# Altium schematic symbol library Schlib.SchLib: 180 symbols (part 1 of 2)
Pins are listed as number, name and electrical type; pins without a type are passive.

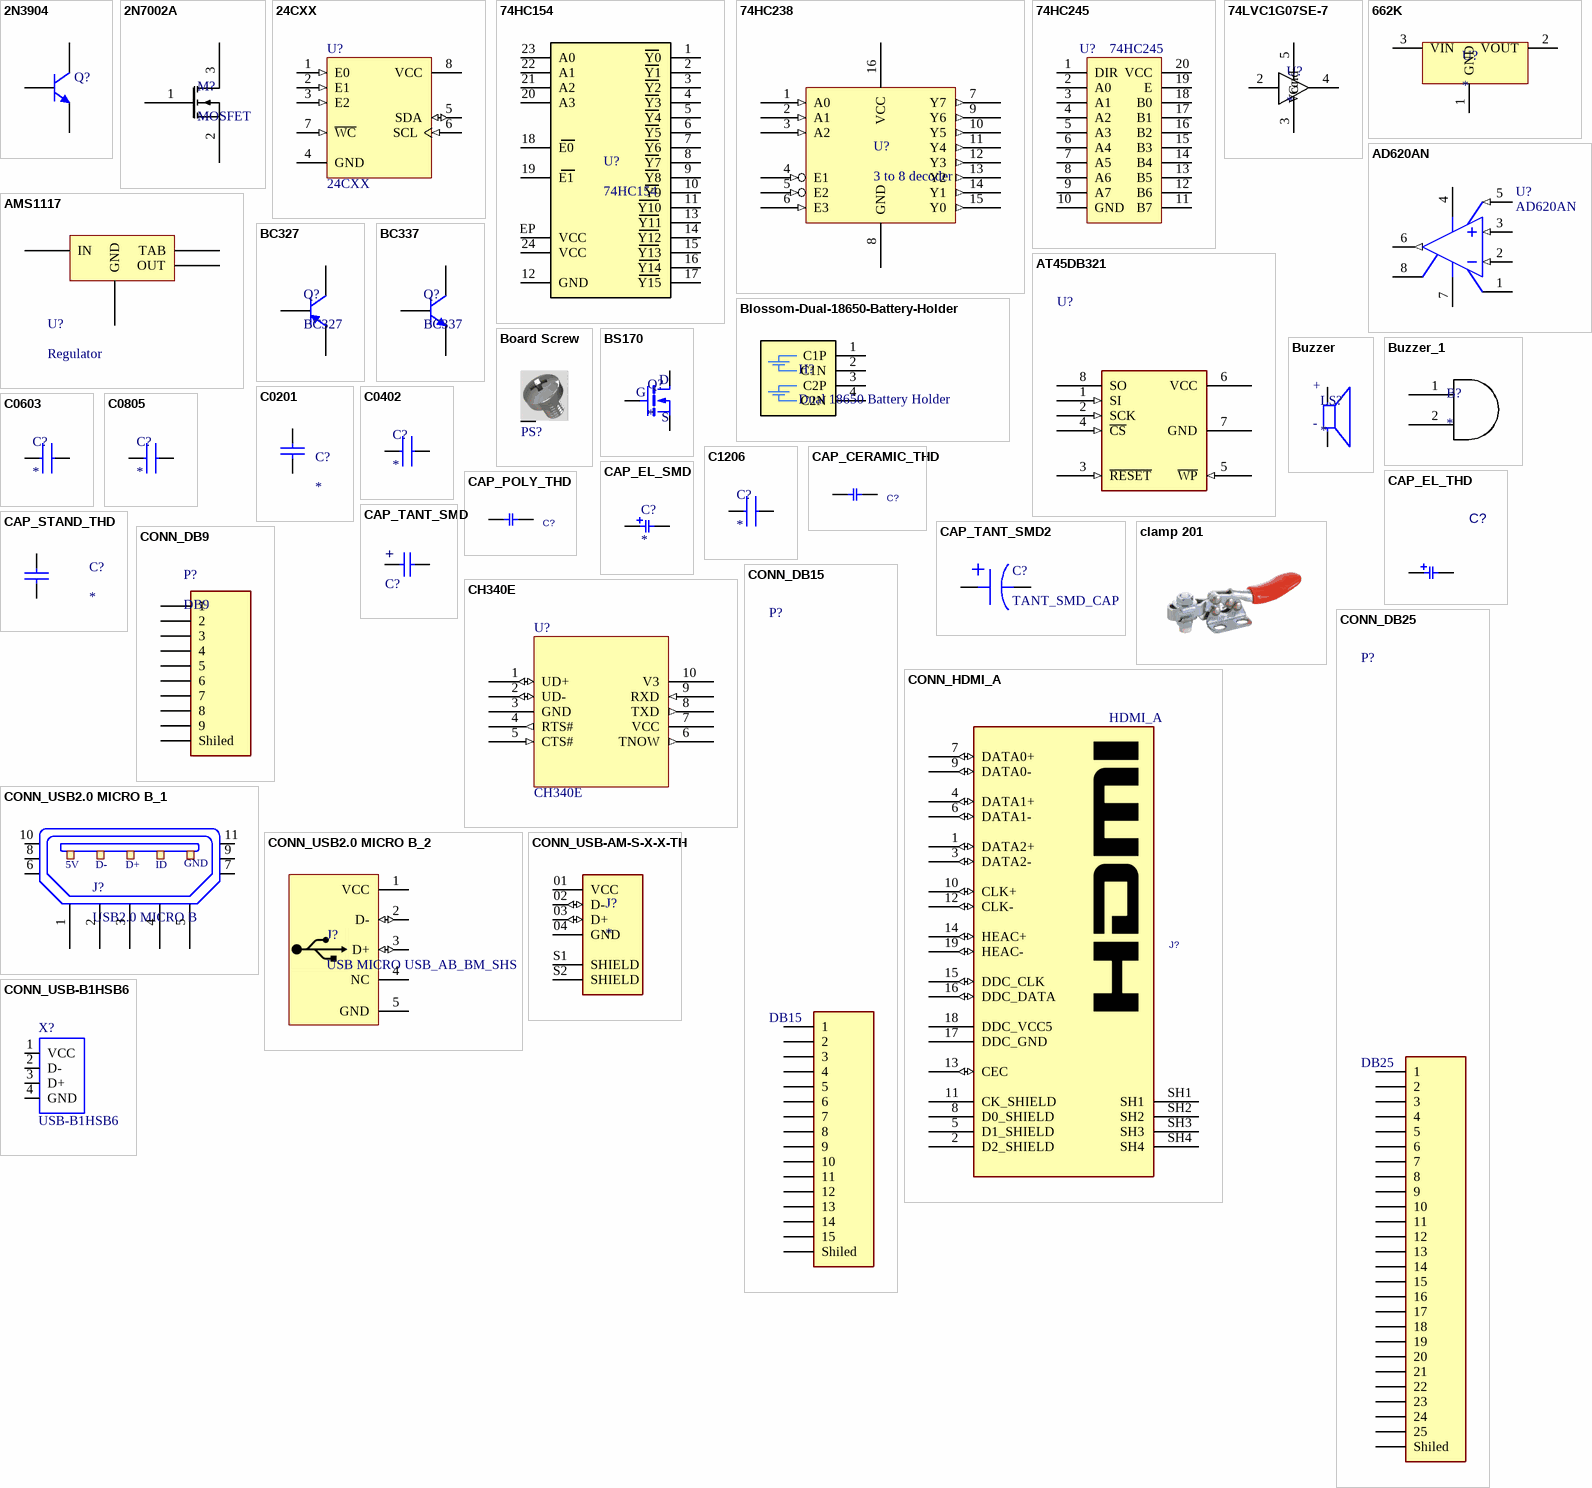
[diagram p0: symbols 2N3904 to CONN_USB-B1HSB6]

## 2N3904
designator Q?
NPN General Purpose Amplifier; Published: 8-Jun-2000; LatestRevisionDate: 15-Jan-2003; LatestRevisionNote: PCB Footprint 'BCY-W3/D4.7' replaced; DatasheetVersion: 1997; PackageVersion: Sep-1998; PackageReference: TO-92A; Publisher: Altium Limited; PackageDescription: TO, Flat Index; 3 In-Line, Axial Leads; Body Dia. 4.5mm; Leads 0.51 x 0.48 mm (max); ComponentLink1Description: Manufacturer Link; ComponentLink1URL: http://www.fairchildsemi.com/; ComponentLink2Description: Datasheet; ComponentLink2URL: http://www.fairchildsemi.com/ds/2N%2F2N3904.pdf
footprint SOT23 (2N3904)
pins: 1 B, 2 C, 3 E

## 2N7002A
designator M?, comment MOSFET
footprint SOT23
pins: 1, 2, 3

## 24CXX
designator U?
Serial I²C Bus EEPROM; ASiD Part Number: AT24C128C-SSHM-T-AS
footprint My_DIP8
footprint My_SOIC_P8
pins: 1 E0 (in), 2 E1 (in), 3 E2 (in), 4 GND (power), 5 SDA (io), 6 SCL (in), 7 ~{WC} (in), 8 VCC (power)

## 74HC154
designator U?
4-to-16 Decoder/Demultiplexer
footprint DHVQFN24
pins: 1 Y0, 2 Y1, 3 Y2, 4 Y3, 5 Y4, 6 Y5, 7 Y6, 8 Y7, 9 Y8, 10 Y9, 11 Y10, 12 GND, 13 Y11, 14 Y12, 15 Y13, 16 Y14, 17 Y15, 18 E0, 19 E1, 20 A3, 21 A2, 22 A1, 23 A0, 24 VCC, EP VCC

## 74HC238
designator U?, comment 3 to 8 decoder
3 to 8 decoder with 3 enable pins
footprint SO-16
pins: 1 A0 (in), 2 A1 (in), 3 A2 (in), 4 E1 (in), 5 E2 (in), 6 E3 (in), 7 Y7 (out), 8 GND (power), 9 Y6 (out), 10 Y5 (out), 11 Y4 (out), 12 Y3 (out), 13 Y2 (out), 14 Y1 (out), 15 Y0 (out), 16 VCC (power)

## 74HC245
designator U?
footprint 74HC245
pins: 1 DIR, 2 A0, 3 A1, 4 A2, 5 A3, 6 A4, 7 A5, 8 A6, 9 A7, 10 GND, 11 B7, 12 B6, 13 B5, 14 B4, 15 B3, 16 B2, 17 B1, 18 B0, 19 E, 20 VCC

## 74LVC1G07SE-7
designator U?
Buffer Gate
footprint SOT23-5L
pins: 2 A, 3 Gnd, 4 A, 5 Vcc

## 662K
designator U?
Regulator
footprint REGULATOR2
pins: 1 GND, 2 VOUT, 3 VIN

## AD620AN
designator U?
Low-Cost, Low-Power Instrumentation Amplifier; Published: 8-Jun-2000; LatestRevisionDate: 04-Mar-2005; LatestRevisionNote: Stylized 3D Model Added.; DatasheetVersion: REV.D 1998; PackageVersion: revA; PackageReference: N-8; Publisher: Altium Limited; PackageDescription: DIP; 8 Leads; Row Spacing 7.62 mm; Pitch 2.54 mm; ComponentLink1Description: Manufacturer Link; ComponentLink1URL: http://www.analog.com/en/prod/0%2C2877%2CAD620%2C00.html; ComponentLink2Description: Datasheet; ComponentLink2URL: http://www.analog.com/UploadedFiles/Data_Sheets/897653854AD620_g.pdf
footprint N-8 (DIP; 8 Leads; Row Spacing 7.62 mm; Pitch 2.54 mm)
pins: 1 RG, 2 -IN (in), 3 +IN (in), 4 V- (power), 5 REF (in), 6 OUT (out), 7 V+ (power), 8 RG

## AMS1117
designator U?, comment Regulator
Manufacturer: UMW(Youtai Semiconductor); Manufacturer Part Number: AMS1117-1.2; Supplier 1: Digi-Key; RoHS: No; Category: Uncategorized; Pricing 1: 1=0.4, 10=0.322, 25=0.2944, 100=0.2191, 250=0.1986, 500=0.16434, 1000=0.12326 (USD); Supplier Part Number 1: 4518-AMS1117-1.2DKR-ND
footprint REGULATOR
pins: 1 GND, 2 OUT, 3 IN, 4 TAB

## AT45DB321
designator U?, comment Atmel Serial Data flash  (value not drawn)
ASiD Part Number: AT45DB321-AS
footprint My_SOIC_P8
pins: 1 SI (in), 2 SCK (in), 3 ~{RESET} (in), 4 ~{CS} (in), 5 ~{WP} (in), 6 VCC (power), 7 GND (power), 8 SO (hiz)

## BC327
designator Q?
NPN Bipolar Transistors - BJT; ASiD Part Number: BC327-AS
footprint MY_TO92
pins: 1 E, 2 B, 3 C

## BC337
designator Q?
NPN Bipolar Transistors - BJT; ASiD Part Number: BC337-AS
footprint MY_TO92
pins: 1 E, 2 B, 3 C

## Blossom-Dual-18650-Battery-Holder
designator H?, comment Dual 18650 Battery Holder
footprint Blossom-1048-Dual-18650-Battery-Holder
pins: 1 C1P, 2 C1N, 3 C2P, 4 C2N

## Board Screw
designator PS?, comment Screw  (value not drawn)
Board Screw With Spacer
footprint screw
pins: S

## BS170
designator Q?
Mosfet
footprint BS170
pins: 1 D, 2 G, 3 S

## Buzzer
designator LS?
7.5 mm, 3.6 Vo-p, 80 dB, Surface Mount (SMT), Magnetic Audio Transducer Buzzer; MF: CUI Devices; MP: CMT-7525-80-SMT-TR; Value: *; Digi-Key_Part_Number: 102-CMT-7525-80-SMT-TR-ND; SnapEDA_Link: https://www.snapeda.com/parts/CMT-7525-80-SMT-TR/CUI+Devices/view-part/?ref=snap; Check_prices: https://www.snapeda.com/parts/CMT-7525-80-SMT-TR/CUI+Devices/view-part/?ref=eda; CUI_purchase_URL: https://www.cuidevices.com/product/audio/buzzers/audio-transducers/cmt-7525-80-smt-tr?utm_source=snapeda.com&utm_medium=referral&utm_campaign=snapedaBOM; Purchase-URL: https://pricing.snapeda.com/search/part/CMT-7525-80-SMT-TR/?ref=eda; Package: CUI Devices
footprint XDCR_CMT-7525-80-SMT-TR
pins: N, P
text: +; -

## Buzzer_1
designator B?
footprint Buzzer-5050
footprint BUZZER-CSPT12A
footprint BUZZER-9x9
pins: 1, 2

## C0201
designator C?
Multilayer Ceramic Capacitor,0201,SMD
footprint CAP0201SMD
pins: 1, 2

## C0402
designator C?
Multilayer Ceramic Capacitor,0402,SMD; Manufacturer: KEMET; Manufacturer Part Number: C0402C104K4RACTU; Material: 4241ConductorMaterial; Capacitance: 100nF; Tolerance: 10%; Dielectric: X7R; Voltage Rating: 16V; Supplier 1: Mouser; RoHS: Yes; Category: Ceramic Capacitors; Stock 1: 4458888; Pricing 1: 1=0.1, 10=0.037, 50=0.037, 100=0.02, 1000=0.012, 10000=0.008 (USD); Mount: Surface Mount; Case/Package: 0402; Number of Pins: 2NUMBER; Case Code (Imperial): 0402; Case Code (Metric): 1005; Dielectric Material: 4241ConductorMaterial; Min Operating Temperature: -55°C; Max Operating Temperature: 125°C; Packaging: Tape and Reel; Series: SMD Comm X7R; Voltage: 16V; Voltage Rating (AC): 16V; Length: 1mm; Depth: 0.5mm; Thickness: 558.8um; Lead Pitch: 300um; Radiation Hardening: No; RoHS Compliant: Yes; Lead Free: 5697LeadFree; Reach SVHC Compliant: 4186SVHC; Supplier Part Number 1: 80-C0402C104K4R
footprint CAP0402SMD
pins: 1, 2

## C0603
designator C?
Multilayer Ceramic Capacitor,0603,SMD; Manufacturer: KEMET; Manufacturer Part Number: C0603C475K8PACTU; Voltage Rating: 10V; Tolerance: 10%; Capacitance: 4.7uF; Dielectric: X5R; Dissipation Factor: 5%; Supplier 1: Mouser; RoHS: Yes; Category: Ceramic Capacitors; Stock 1: 905386; Pricing 1: 1=0.64, 10=0.634, 50=0.634, 100=0.44, 1000=0.403, 10000=0.036 (USD); Mount: Surface Mount; Case/Package: 0603; Number of Pins: 2; Case Code (Imperial): 0603; Case Code (Metric): 1608; Dielectric Material: Ceramic; Min Operating Temperature: -55°C; Max Operating Temperature: 85°C; Packaging: Tape and Reel; Termination: SMD/SMT; Series: C; Voltage Rating (DC): 10V; Voltage: 10V; Package Quantity: 1; Construction: Flat; Length: 1.6mm; Width: 0.031inch; Height: 0.8mm; Depth: 0.8mm; Thickness: 0.035inch; Radiation Hardening: No; Reach SVHC Compliant: No; RoHS Compliant: Yes; Lead Free: 5697LeadFree; ComponentLink1URL: https://datasheet.ciiva.com/26894/getdatasheetpartid-385569-26894059.pdf?src-supplier=Verical; ComponentLink1Description: https://datasheet.ciiva.com/26894/getdatasheetpartid-385569-26894059.pdf?src-supplier=Verical; ComponentLink2URL: https://datasheet.ciiva.com/28614/kem-c1006-x5r-smd-28614757.pdf?src-supplier=Element14; ComponentLink2Description: https://datasheet.ciiva.com/28614/kem-c1006-x5r-smd-28614757.pdf?src-supplier=Element14; Supplier Part Number 1: 80-C0603C475K8P
footprint CAP0603SMD
pins: 1, 2

## C0805
designator C?
Multilayer Ceramic Capacitor,0805,SMD; Manufacturer: KEMET; Manufacturer Part Number: C0805C106K8PACTU; Material: 4241ConductorMaterial; Capacitance: 10uF; Tolerance: 10%; Dielectric: X5R; Voltage Rating (DC): 10V; Supplier 1: Mouser; RoHS: Yes; Category: Ceramic Capacitors; Stock 1: 436110; Pricing 1: 1=0.15, 10=0.07, 50=0.07, 100=0.07, 1000=0.07, 10000=0.057 (USD); Mount: Surface Mount; Case/Package: 0805; Number of Pins: 2; Case Code (Imperial): 0805; Case Code (Metric): 2012; Dielectric Material: Ceramic; Contact Plating: Tin,Matte; Min Operating Temperature: -55°C; Max Operating Temperature: 85°C; Packaging: Tape and Reel; Termination: SMD/SMT; Series: C; Package Quantity: 1; Voltage Rating: 10V; Voltage: 10V; Construction: Flat; Dissipation Factor: 10%; Length: 2mm; Width: 0.049inch; Height: 1.25mm; Depth: 1.25mm; Thickness: 0.055inch; Radiation Hardening: No; RoHS Compliant: Yes; Reach SVHC Compliant: No; Lead Free: 5697LeadFree; Supplier Part Number 1: 80-C0805C106K8P
footprint CAP0805SMD
pins: 1, 2

## C1206
designator C?
Multilayer Ceramic Capacitor,1206,SMD; Manufacturer: KEMET; Manufacturer Part Number: C0402C104K4RACTU; Material: 4241ConductorMaterial; Capacitance: 100nF; Tolerance: 10%; Dielectric: X7R; Voltage Rating: 16V; Supplier 1: Mouser; RoHS: Yes; Category: Ceramic Capacitors; Stock 1: 4458888; Pricing 1: 1=0.1, 10=0.037, 50=0.037, 100=0.02, 1000=0.012, 10000=0.008 (USD); Mount: Surface Mount; Case/Package: 0402; Number of Pins: 2NUMBER; Case Code (Imperial): 0402; Case Code (Metric): 1005; Dielectric Material: 4241ConductorMaterial; Min Operating Temperature: -55°C; Max Operating Temperature: 125°C; Packaging: Tape and Reel; Series: SMD Comm X7R; Voltage: 16V; Voltage Rating (AC): 16V; Length: 1mm; Depth: 0.5mm; Thickness: 558.8um; Lead Pitch: 300um; Radiation Hardening: No; RoHS Compliant: Yes; Lead Free: 5697LeadFree; Reach SVHC Compliant: 4186SVHC; Supplier Part Number 1: 80-C0402C104K4R
footprint CAP1206SMD (CHIP Capacitor, 3.2X1.6mm, 1206)
pins: 1, 2

## CAP_CERAMIC_THD
designator C?  (value not drawn)
CAP, THD, CER MULTI LAYER,; DESC: CAP, CER MULTI LAYER,; MANF_P#: MANF_PART#; PARAM2: 50V; PRICE: 100= 1$; MANF: MANF; ASSEMBLY: ASSEMBLY
footprint CAP_CERAMIC (CAP, CER, D:5mm, pitch: 2.5mm)
pins: 1, 2

## CAP_EL_SMD
designator C?
CAP, SMD, ELEC,
footprint CAP_EL_SMD
pins: 1, 2

## CAP_EL_THD
designator C?  (value not drawn)
CAP, THD, ELEC,; MANF_P#: MANF_PART#; DESC: DESCRIPTION; DIST#: MOUSER; PARAM: 20%; PRICE: 10= -$; MANF: MANF; ASSEMBLY: ASSEMBLY
footprint CAP_EL (Capacitor Electrolythic, D10.0X16.0H pitch: 5.0mm)
pins: 1, 2

## CAP_POLY_THD
designator C?  (value not drawn)
CAP, POLY; PARAM: 400V; DESC: CAP, FILM,; MANF_P#: MANF_PART#; PRICE: 100= 1$; MANF: MANF; PARAM2: PARAM2; ASSEMBLY: ASSEMBLY
footprint CAP_FILM (CAP, POLYESTER, 9.3X5.2mm pitch: 7.6mm)
pins: 1, 2

## CAP_STAND_THD
designator C?
CAP, STAND, THD
footprint CAP_STAND
pins: 1, 2

## CAP_TANT_SMD
designator C?  (value not drawn)
CAP, SMD, TANT,; ASiD Part Number: C-AS
footprint CAP_TANT2
pins: 1, 2
text: +

## CAP_TANT_SMD2
designator C?, comment TANT_SMD_CAP
CAP, SMD, TANT; Manufacturer: KEMET; Manufacturer Part Number: T530X337M010ATE004; Supplier 1: Rs; RoHS: Yes; Category: Polymer Capacitors; Stock 1: 501; Pricing 1: 1=5.61, 10=5.39, 25=5.16, 50=4.65, 100=4.18 (GBP); ComponentLink1URL: https://datasheet.ciiva.com/11794/0900766b80deaa91-11794477.pdf?src-supplier=Rs; ComponentLink1Description: https://datasheet.ciiva.com/11794/0900766b80deaa91-11794477.pdf?src-supplier=Rs; ComponentLink2URL: https://datasheet.ciiva.com/14593/70096008-14593753.pdf?src-supplier=Allied+Electronics; ComponentLink2Description: https://datasheet.ciiva.com/14593/70096008-14593753.pdf?src-supplier=Allied+Electronics
footprint CAP_TANT
pins: 1, 2

## CH340E
designator U?
USB to TTL Serial / UART
footprint CH340E
pins: 1 UD+ (io), 2 UD- (io), 3 GND (power), 4 RTS# (out), 5 CTS# (in), 6 TNOW (out), 7 VCC (power), 8 TXD (out), 9 RXD (in), 10 V3 (power)

## clamp 201
designator clamp?  (value not drawn)
footprint clamp 201
footprint clamp

## CONN_DB9
designator P?, comment DB9
DB9 (Right angle  PCB mount); ASiD Part Number: DB9-AS
footprint MY_DSUB9_Female (Connector; D Subminiature; 9 Position; Right Angle; Pitch 1.385 mm)
footprint MY_DSUB9_Male
pins: 1, 2, 3, 4, 5, 6, 7, 8, 9, 10 Shiled

## CONN_DB15
designator P?, comment DB15
DB15 (Right angle  PCB mount); ASiD Part Number: DB15-AS
footprint MY_DSUB15_Female (Connector; D Subminiature; 15 Position; Right Angle; Pitch 1.385 mm)
footprint MY_DSUB15_Male
pins: 1, 2, 3, 4, 5, 6, 7, 8, 9, 10, 11, 12, 13, 14, 15, 16 Shiled

## CONN_DB25
designator P?, comment DB25
DB25 (Right angle  PCB mount); ASiD Part Number: DB25-AS
footprint MY_DSUB25_Female (Connector; D Subminiature; 25 Position; Right Angle; Pitch 1.385 mm)
footprint MY_DSUB25_Male
pins: 1, 2, 3, 4, 5, 6, 7, 8, 9, 10, 11, 12, 13, 14, 15, 16, 17, 18, 19, 20, 21, 22, 23, 24, 25, 26 Shiled

## CONN_HDMI_A
designator J?, comment HDMI_A
CONN, HDMI, Receptacle, TYPE A, 19P, RIGH-ANGLE; MANF: Molex, WURTH; MANF_P#: 208658-1051, 47151-0001, 500254-1927; PARAM: Receptacle, 19P, RIGH-ANGLE; MANF_P#2: 685119134923; PRICE: 2.57$; VALUE: HDMI_A
footprint HDMI_A (CONN, HDMI, TYPE A, 19PIN)
pins: 1 DATA2+ (io), 2 D2_SHIELD, 3 DATA2- (io), 4 DATA1+ (io), 5 D1_SHIELD, 6 DATA1- (io), 7 DATA0+ (io), 8 D0_SHIELD, 9 DATA0- (io), 10 CLK+ (io), 11 CK_SHIELD, 12 CLK- (io), 13 CEC (io), 14 HEAC+ (io), 15 DDC_CLK (io), 16 DDC_DATA (io), 17 DDC_GND, 18 DDC_VCC5, 19 HEAC- (io), SH1, SH2, SH3, SH4

## CONN_USB2.0 MICRO B_1
designator J?, comment USB2.0 MICRO B
USB2.0 MICRO B SMD R/A; Manufacturer 1: Amphenol FCI; Manufacturer Part Number 1: 10118194-0001LF; Gender: Receptacle; Current Rating: 1.8A; Connector Type: USB,Receptacle; Number of Contacts: 5; Insulation Resistance: 1GR; Number of Ports: 1; Max Voltage Rating (AC): 100V; Pitch: 0.65mm; Supplier 1: Digi-Key; RoHS: Yes; Category: Connectors; Stock 1: 31557; Pricing 1: 1=0.43000, 10=0.40500, 25=0.36440, 50=0.32400, 100=0.31040, 250=0.28344, 500=0.26994 (USD); Mount: Surface Mount,Horizontal; Contact Material: Copper Alloy; Contact Plating: Gold; Number of Terminals: 5; Housing Material: Polymer; Color: Black; Min Operating Temperature: -55°C; Max Operating Temperature: 85°C; Package Quantity: 9600; Packaging: Tape and Reel; Termination: Solder; Orientation: Right Angle; Features: Shielded; Length: 8.05mm; Depth: 5mm; Radiation Hardening: No; Lead Free: Lead Free; Flammability Rating: UL94 V-0; ComponentLink1URL: https://datasheet.ciiva.com/4598/10118194ac-197217-4598807.pdf?src-supplier=Mouser; ComponentLink1Description: https://datasheet.ciiva.com/4598/10118194ac-197217-4598807.pdf?src-supplier=Mouser; ComponentLink2URL: https://datasheet.ciiva.com/26945/getdatasheetpartid-418619-26945695.pdf?src-supplier=Verical; ComponentLink2Description: https://datasheet.ciiva.com/26945/getdatasheetpartid-418619-26945695.pdf?src-supplier=Verical; ComponentLink3URL: https://datasheet.ciiva.com/851/10118194-851110.pdf?src-supplier=Digi-Key; ComponentLink3Description: https://datasheet.ciiva.com/851/10118194-851110.pdf?src-supplier=Digi-Key; ComponentLink4URL: https://datasheet.ciiva.com/851/10118194-851111.pdf?src-supplier=Digi-Key; ComponentLink4Description: https://datasheet.ciiva.com/851/10118194-851111.pdf?src-supplier=Digi-Key; Supplier Part Number 1: 609-4618-1-ND
footprint USB TYPE B
pins: 1, 2, 3, 4, 5, 6, 7, 8, 9, 10, 11
text: 5V; D-; D+; ID; GND

## CONN_USB2.0 MICRO B_2
designator J?, comment USB MICRO USB_AB_BM_SHS
footprint USB TYPE B_2
pins: 1 VCC (power), 2 D- (io), 3 D+ (io), 4 NC, 5 GND (power)

## CONN_USB-AM-S-X-X-TH
designator J?
USB Connectors USB 2.0 Interface, Type A; MF: Samtec; MP: USB-AM-S-S-W-TH; Value: *; SnapEDA_Link: https://www.snapeda.com/parts/USB-AM-S-S-W-TH/Samtec/view-part/?ref=snap; Purchase-URL: https://pricing.snapeda.com/search/part/USB-AM-S-S-W-TH/?ref=eda; Availability: In Stock; Price: None; Package: None; Check_prices: https://www.snapeda.com/parts/USB-AM-S-S-W-TH/Samtec/view-part/?ref=eda
footprint SAMTEC_USB-AM-S-X-X-TH
pins: 01 VCC (power), 02 D- (io), 03 D+ (io), 04 GND (power), S1 SHIELD, S2 SHIELD

## CONN_USB-B1HSB6
designator X?, comment USB-B1HSB6
USB-B _USB TYPE-B_ Receptacle Connector 4 Position Through Hole, Right Angle; MF: On Shore; Value: *; SnapEDA_Link: https://www.snapeda.com/parts/USB-B1HSB6/On%20Shore%20Technology%20Inc./view-part/227661/?ref=snap; Digi-Key_Purchase_URL: https://www.digikey.com/product-detail/en/on-shore-technology-inc/USB-B1HSB6/ED2983-ND/2677744?utm_source=snapeda&utm_medium=aggregator&utm_campaign=symbol; MP: USB-B1HSB6; Digi-Key_Part_Number: ED2983-ND; Package: None
footprint OST_USB-B1HSB6
pins: 1 VCC (power), 2 D- (io), 3 D+ (io), 4 GND (power)

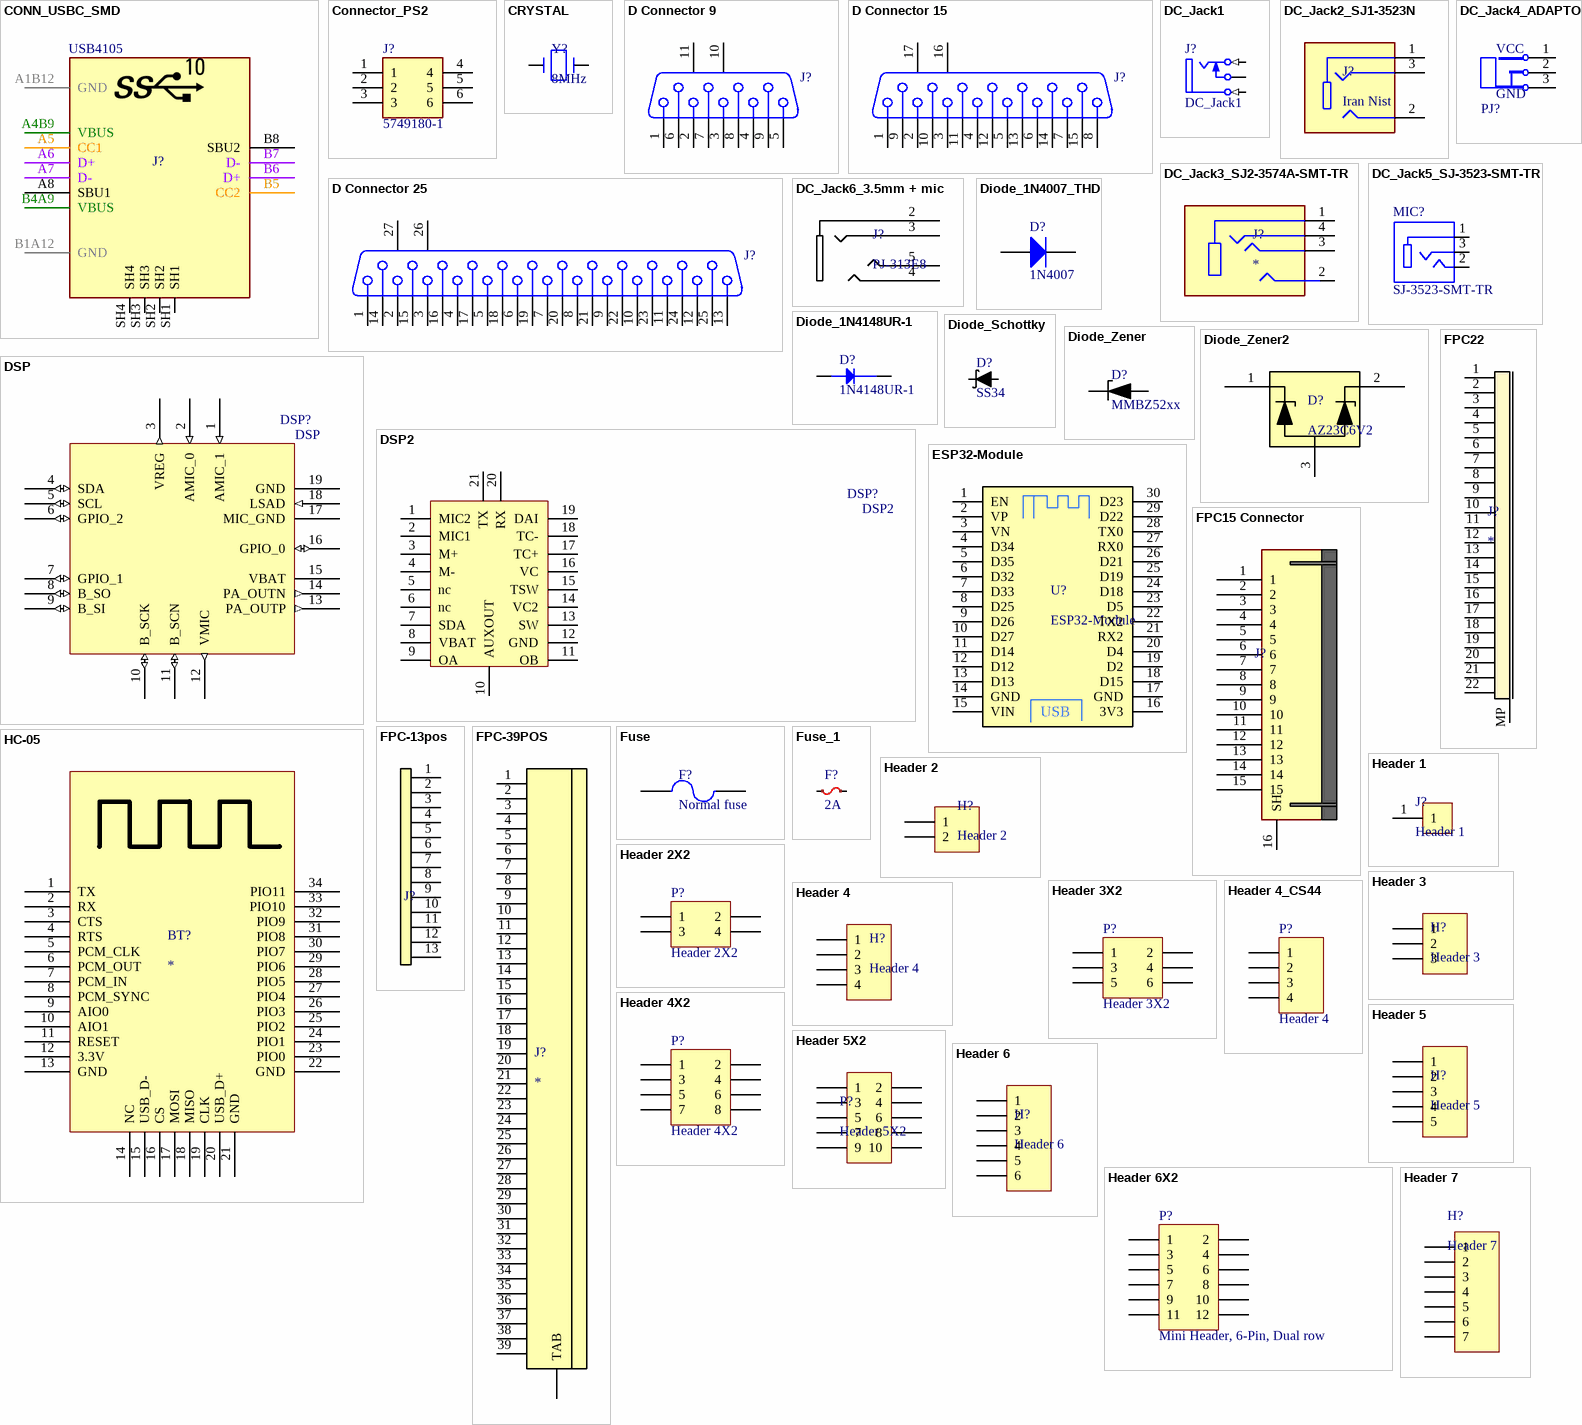
[diagram p1: symbols CONN_USBC_SMD to Header 7]

## CONN_USBC_SMD
designator J?, comment USB4105
CONN, USB, Type C, USB 2.0, Right-Angle, SMD; MANF: GCT; MANF_P#: USB4105-GF-A; PARAM: 5A; Price: 1.5$; Value: USB4105
footprint USB TYPE C (CONN, USB, Type C, USB4105, popular*)
pins: A1B12 GND, A4B9 VBUS, A5 CC1, A6 D+, A7 D-, A8 SBU1, B1A12 GND, B4A9 VBUS, B5 CC2, B6 D+, B7 D-, B8 SBU2, SH1, SH2, SH3, SH4
1 alternate drawing of the same symbol

## Connector_PS2
designator J?, comment 5749180-1
Connector; Manufacturer_Name: TE Connectivity; Datasheet Link: http://www.te.com/commerce/DocumentDelivery/DDEController?Action=srchrtrv&DocNm=5749180&DocType=Customer+Drawing&DocLang=English&DocFormat=pdf&PartCntxt=5749180-1; Manufacturer_Part_Number: 5749180-1; Arrow Part Number: 5749180-1; Arrow Price/Stock: https://www.arrow.com/en/products/5749180-1/te-connectivity; Mouser Part Number: 571-5749180-1; Mouser Price/Stock: https://www.mouser.co.uk/ProductDetail/TE-Connectivity/5749180-1?qs=XlZqES4cpWZV2xh%2FjR2Ukw%3D%3D
footprint 5749180-1
pins: 1, 2, 3, 4, 5, 6

## CRYSTAL
designator Y?, comment 8MHz
CRYSTAL 8.0000MHZ 18PF SMD; Manufacturer 1: ECS International; Manufacturer Part Number 1: ECS-80-18-5PX-TR; Tolerance: 30ppm; ESR (Equivalent Series Resistance): 60R; Frequency Stability: 50ppm; Supplier 1: Digi-Key; RoHS: Yes; Category: Crystals; Stock 1: 6700; Pricing 1: 1=0.25000, 10=0.21000, 50=0.18860, 100=0.16760, 500=0.15926 (USD); Mount: Surface Mount; Min Operating Temperature: -10°C; Max Operating Temperature: 70°C; Package Quantity: 1000; Frequency: 8MHz; Load Capacitance: 18pF; Packaging: Tape and Reel; Frequency Tolerance: 30ppm; Termination: SMD/SMT; Length: 0.449inch; Height: 0.169inch; Width: 4.8mm; Lead Free: Lead Free; ComponentLink1URL: https://datasheet.ciiva.com/852/csm-7x-852380.pdf?src-supplier=Digi-Key; ComponentLink1Description: https://datasheet.ciiva.com/852/csm-7x-852380.pdf?src-supplier=Digi-Key; ComponentLink2URL: https://datasheet.ciiva.com/852/csm-7x-852381.pdf?src-supplier=Digi-Key; ComponentLink2Description: https://datasheet.ciiva.com/852/csm-7x-852381.pdf?src-supplier=Digi-Key; ComponentLink3URL: https://datasheet.ciiva.com/852/csm-7x-852382.pdf?src-supplier=Digi-Key; ComponentLink3Description: https://datasheet.ciiva.com/852/csm-7x-852382.pdf?src-supplier=Digi-Key; Supplier Part Number 1: XC1271CT-ND
footprint CRYSTAL
pins: 1, 2

## D Connector 9
designator J?
Receptacle Assembly, 9 Position, Right Angle; PackageDocument: O; Positions: 9; Published: 15-Jun-2001; LatestRevisionDate: 17-Jul-2002; LatestRevisionNote: Re-released for DXP Platform.; DatasheetDocument: 1-Sep-1999; PackageReference: 788750; Publisher: Altium Limited; Orientation: Right Angle; Gender: Receptacle
signal-integrity model Connector
footprint DSUB1.385-2H9-F (Connector; D Subminiature; 9 Position; Right Angle; Pitch 1.385 mm)
footprint DSUB1.385-2H9 - M (Connector; D Subminiature; 9 Position; Right Angle; Pitch 1.385 mm)
pins: 1, 2, 3, 4, 5, 6, 7, 8, 9, 10 MH1, 11 MH2

## D Connector 15
designator J?
Receptacle Assembly, 15 Position, Right Angle; PackageDocument: O; Positions: 15; Published: 15-Jun-2001; LatestRevisionDate: 17-Jul-2002; LatestRevisionNote: Re-released for DXP Platform.; DatasheetDocument: 1-Sep-99; PackageReference: 788757; Publisher: Altium Limited; Orientation: Right Angle; Gender: Receptacle
signal-integrity model Connector
footprint DSUB1.385-2H15-F (Connector; D Subminiature; 15 Position; Right Angle; Pitch 1.385 mm)
footprint DSUB1.385-2H15 - M (Connector; D Subminiature; 15 Position; Right Angle; Pitch 1.385 mm)
pins: 1, 2, 3, 4, 5, 6, 7, 8, 9, 10, 11, 12, 13, 14, 15, 16 MH1, 17 MH2

## D Connector 25
designator J?
Receptacle Assembly, 25 Position, Right Angle; PackageDocument: U; Positions: 25; Published: 15-Jun-2001; LatestRevisionDate: 17-Jul-2002; LatestRevisionNote: Re-released for DXP Platform.; DatasheetDocument: 19-Mar-1999; PackageReference: 787202; Publisher: Altium Limited; Orientation: Right Angle; Gender: Receptacle
signal-integrity model Connector
footprint DSUB1.385-2H25A-F (Connector; D Subminiature; 25 Position; Right Angle; Pitch 1.385 mm)
footprint DSUB1.385-2H25A - M (Connector; D Subminiature; 25 Position; Right Angle; Pitch 1.385 mm)
pins: 1, 2, 3, 4, 5, 6, 7, 8, 9, 10, 11, 12, 13, 14, 15, 16, 17, 18, 19, 20, 21, 22, 23, 24, 25, 26 MH1, 27 MH2

## DC_Jack1
designator J?
DC_Jack; ASiD Part Number: DC_Jack-AS
footprint My_DC_Jack
pins: 1 T (in) "Tip", 2 TN "Tip Normal (Break Contact)", 3 S (in) "Sleeve (Ground)"

## DC_Jack2_SJ1-3523N
designator J?, comment Iran Nist
3.5 mm, Stereo, Right Angle, Through Hole, 3 Conductors, 0 Internal Switches, Audio Jack Connector; MF: CUI Devices; MP: SJ1-3523N; SnapEDA_Link: https://www.snapeda.com/parts/SJ1-3523N/CUI+Devices/view-part/?ref=snap; Package: None; Value: *; CUI_purchase_URL: https://www.cuidevices.com/product/interconnect/connectors/audio-connectors/jacks/sj1-3523n?utm_source=snapeda.com&utm_medium=referral&utm_campaign=snapedaBOM; Check_prices: https://www.snapeda.com/parts/SJ1-3523N/CUI+Devices/view-part/?ref=eda
footprint CUI_SJ1-3523N
pins: 1, 2, 3

## DC_Jack3_SJ2-3574A-SMT-TR
designator J?
3.5 mm, Stereo, Right Angle, Surface Mount (SMT), Audio Jack Connector; MP: SJ2-3574A-SMT-TR; MF: CUI Devices; SnapEDA_Link: https://www.snapeda.com/parts/SJ2-3574A-SMT-TR/CUI+Devices/view-part/?ref=snap; Package: None; CUI_purchase_URL: https://www.cuidevices.com/product/interconnect/connectors/audio-connectors/jacks/sj2-357x-smt-series?utm_source=snapeda.com&utm_medium=referral&utm_campaign=snapedaBOM; Check_prices: https://www.snapeda.com/parts/SJ2-3574A-SMT-TR/CUI+Devices/view-part/?ref=eda; Purchase-URL: https://pricing.snapeda.com/search/part/SJ2-3574A-SMT-TR/?ref=eda; Price: None; Value: *; Availability: In Stock
footprint CUI_SJ2-3574A-SMT-TR
pins: 1, 2, 3, 4

## DC_Jack4_ADAPTOR
designator PJ?, comment JACK ADAPTOR  (value not drawn)
footprint JACK ADAPTOR
pins: 1, 2, 3
text: VCC; GND

## DC_Jack5_SJ-3523-SMT-TR
designator MIC?, comment SJ-3523-SMT-TR
3.5 mm, Stereo, Right Angle, Surface Mount _SMT_, Audio Jack Connector; MF: CUI Devices; Package: LGA-10 STMicroelectronics; CUI_purchase_URL: https://www.cuidevices.com/product/interconnect/connectors/audio-connectors/jacks/sj-352x-smt-series?utm_source=snapeda.com&utm_medium=referral&utm_campaign=snapedaBOM; Value: *; Price: None; MP: SJ-3523-SMT-TR; Availability: Unavailable; SnapEDA_Link: https://www.snapeda.com/parts/SJ-3523-SMT-TR/CUI%20Devices/view-part/251570/?ref=snap
footprint CUI_SJ-3523-SMT-TR
pins: 1, 2, 3

## DC_Jack6_3.5mm + mic
designator J?, comment PJ-313E8
footprint PJ-313E8
pins: 2 gg, 3 gg, 4 gg, 5 gg

## Diode_1N4007_THD
designator D?, comment 1N4007
1 Amp Diode; ASiD Part Number: 1n4007-AS
footprint Diode2
pins: A, K

## Diode_1N4148UR-1
designator D?, comment 1N4148UR-1
Diode Switching 75V 0.2A 2-Pin DO-213AA; Manufacturer 1: Microsemi; Forward Voltage: 1.2V; Forward Current: 200mA; Peak Reverse Current: 500nA; Reverse Recovery Time: 5ns; Peak Non-Repetitive Surge Current: 2A; Element Configuration: Single; Supplier 1: Digi-Key; Manufacturer Part Number 1: 1N4148UR-1; RoHS: Yes; Category: Rectifier Diodes; Stock 1: 470; Pricing 1: 1=1.50000, 10=1.35200, 100=1.08630, 500=0.89250, 1000=0.73950, 2500=0.71400 (USD); Mount: Surface Mount; Number of Pins: 2; Min Operating Temperature: -65°C; Max Operating Temperature: 175°C; Packaging: Bulk; Average Rectified Current: 200mA; Max Repetitive Reverse Voltage (Vrrm): 75V; Max Reverse Voltage (DC): 75V; Radiation Hardening: No; Lead Free: Lead Free; ComponentLink1URL: https://datasheet.ciiva.com/3304/lds-0281-1-3304223.pdf?src-supplier=Avnet; ComponentLink1Description: https://datasheet.ciiva.com/3304/lds-0281-1-3304223.pdf?src-supplier=Avnet; Supplier Part Number 1: 1N4148UR-1-ND
footprint DIODE
pins: 1 anode, 2 cathode

## Diode_Schottky
designator D?, comment SS34
Schottky Diode
footprint SCHOTTKY_DIODE
pins: A (oe), K (oe)

## Diode_Zener
designator D?, comment MMBZ52xx
Zener diode
footprint DIODE_ZENER
pins: 1 Anode, 3 Cathode

## Diode_Zener2
designator D?, comment AZ23C6V2
6.2V Zener
footprint DIODE_ZENER2
pins: 1, 2, 3

## DSP
designator DSP?
footprint DSP
pins: 1 AMIC_1 (in), 2 AMIC_0 (in), 3 VREG (out), 4 SDA (io), 5 SCL (io), 6 GPIO_2 (io), 7 GPIO_1 (io), 8 B_SO (io), 9 B_SI (io), 10 B_SCK (io), 11 B_SCN (io), 12 VMIC (out), 13 PA_OUTP (out), 14 PA_OUTN (out), 15 VBAT (power), 16 GPIO_0 (io), 17 MIC_GND (power), 18 LSAD (in), 19 GND (power)

## DSP2
designator DSP?
footprint DSP2
footprint Audion 6
footprint HYBRID_MODULE - on Board
pins: 1 MIC2, 2 MIC1, 3 M+, 4 M-, 5 nc, 6 nc, 7 SDA, 8 VBAT, 9 OA, 10 AUXOUT, 11 OB, 12 GND, 13 SW, 14 VC2, 15 TSW, 16 VC, 17 TC+, 18 TC-, 19 DAI, 20 RX, 21 TX

## ESP32-Module
designator U?
ESP32 Module
footprint ESP32-MODULE
pins: 1 EN, 2 VP, 3 VN, 4 D34, 5 D35, 6 D32, 7 D33, 8 D25, 9 D26, 10 D27, 11 D14, 12 D12, 13 D13, 14 GND, 15 VIN, 16 3V3, 17 GND, 18 D15, 19 D2, 20 D4, 21 RX2, 22 TX2, 23 D5, 24 D18, 25 D19, 26 D21, 27 RX0, 28 TX0, 29 D22, 30 D23
text: USB

## FPC15 Connector
designator J?
FPC connector 15pin 1mm pitch
footprint FPC15-1mm
pins: 1, 2, 3, 4, 5, 6, 7, 8, 9, 10, 11, 12, 13, 14, 15, 16 SH

## FPC22
designator J?
FPC Connector 0.5mm pitch
footprint FPC22-0.5MM (FH12-20S-0.5SH FFC-FPC pitch: 0.5mm)
pins: 1, 2, 3, 4, 5, 6, 7, 8, 9, 10, 11, 12, 13, 14, 15, 16, 17, 18, 19, 20, 21, 22, MP

## FPC-13pos
designator J?  (value not drawn)
FPC 0.3mm pitch 13pos
footprint FPC13-0.3MM
pins: 1, 2, 3, 4, 5, 6, 7, 8, 9, 10, 11, 12, 13

## FPC-39POS
designator J?
footprint FPC39-0.3MM
pins: 1, 2, 3, 4, 5, 6, 7, 8, 9, 10, 11, 12, 13, 14, 15, 16, 17, 18, 19, 20, 21, 22, 23, 24, 25, 26, 27, 28, 29, 30, 31, 32, 33, 34, 35, 36, 37, 38, 39, TAB

## Fuse
designator F?, comment Normal fuse
ASiD Part Number: Fuse-AS
footprint MY_FUSE
pins: 1, 2

## Fuse_1
designator F?, comment 2A
Fuse; Amper: 2A
footprint F2410 (FUSE, 6x2.5mm)
pins: 1, 2

## HC-05
designator BT?
footprint HC-05
pins: 1 TX (oe), 2 RX (oe), 3 CTS (oe), 4 RTS (oe), 5 PCM_CLK (oe), 6 PCM_OUT (oe), 7 PCM_IN (oe), 8 PCM_SYNC (oe), 9 AIO0 (oe), 10 AIO1 (oe), 11 RESET (oe), 12 3.3V (oe), 13 GND (oe), 14 NC (oe), 15 USB_D- (oe), 16 CS (oe), 17 MOSI (oe), 18 MISO (oe), 19 CLK (oe), 20 USB_D+ (oe), 21 GND (oe), 22 GND (oe), 23 PIO0 (oe), 24 PIO1 (oe), 25 PIO2 (oe), 26 PIO3 (oe), 27 PIO4 (oe), 28 PIO5 (oe), 29 PIO6 (oe), 30 PIO7 (oe), 31 PIO8 (oe), 32 PIO9 (oe), 33 PIO10 (oe), 34 PIO11 (oe)

## Header 1
designator J?
footprint Pad_Hole
pins: 1

## Header 2
designator H?
footprint MO-HEADER 2
footprint My_1X02
footprint MY_MA02-1W
footprint REC
footprint BAT
pins: 1, 2

## Header 2X2
designator P?
Header, 2-Pin, Dual row; LatestRevisionDate: 17-Jul-2002; LatestRevisionNote: Re-released for DXP Platform.; Publisher: Altium Limited
footprint HDR2X2 (Connector; Header; 2x2 Position)
pins: 1, 2, 3, 4

## Header 3
designator H?
footprint MO-Header 3
footprint My_1X03
footprint mic
pins: 1, 2, 3

## Header 3X2
designator P?
2mm Header, 3-Pin, Dual row; LatestRevisionDate: 23-DEC-2012; LatestRevisionNote: Re-released for DXP Platform.; Publisher: Koosha Electronic
footprint MMHDR2X3 (Connector; Header; 3x2 Position)
pins: 1, 2, 3, 4, 5, 6

## Header 4
designator H?
footprint MO-Header 4
footprint My_1X04
footprint CS44Connector
pins: 1, 2, 3, 4

## Header 4_CS44
designator P?, comment Header 4
CS44Conector; LatestRevisionDate: 17-Jul-2002; LatestRevisionNote: Re-released for DXP Platform.; Publisher: Altium Limited
footprint CS44Connector
pins: 1, 2, 3, 4

## Header 4X2
designator P?
Header, 4-Pin, Dual row; LatestRevisionDate: 17-Jul-2002; LatestRevisionNote: Re-released for DXP Platform.; Publisher: Altium Limited
footprint HDR2X4 (Connector; Header; 4x2 Position)
pins: 1, 2, 3, 4, 5, 6, 7, 8

## Header 5
designator H?
footprint MO-Header 5
footprint My_1X05
pins: 1, 2, 3, 4, 5

## Header 5X2
designator P?
Header, 5-Pin, Dual row
footprint Header2X5
pins: 1, 2, 3, 4, 5, 6, 7, 8, 9, 10

## Header 6
designator H?
footprint MO-Header 6
footprint My_1X06
pins: 1, 2, 3, 4, 5, 6

## Header 6X2
designator P?, comment Mini Header, 6-Pin, Dual row
2mm Header, 6-Pin, Dual row; LatestRevisionDate: 23-DEC-2012; LatestRevisionNote: Re-released for DXP Platform.; Publisher: Koosha Electronic Alborz
footprint MMHDR2X6 (Connector; Header; 6x2 Position)
pins: 1, 2, 3, 4, 5, 6, 7, 8, 9, 10, 11, 12

## Header 7
designator H?
footprint MO-Header 7
footprint MY_1X07
pins: 1, 2, 3, 4, 5, 6, 7

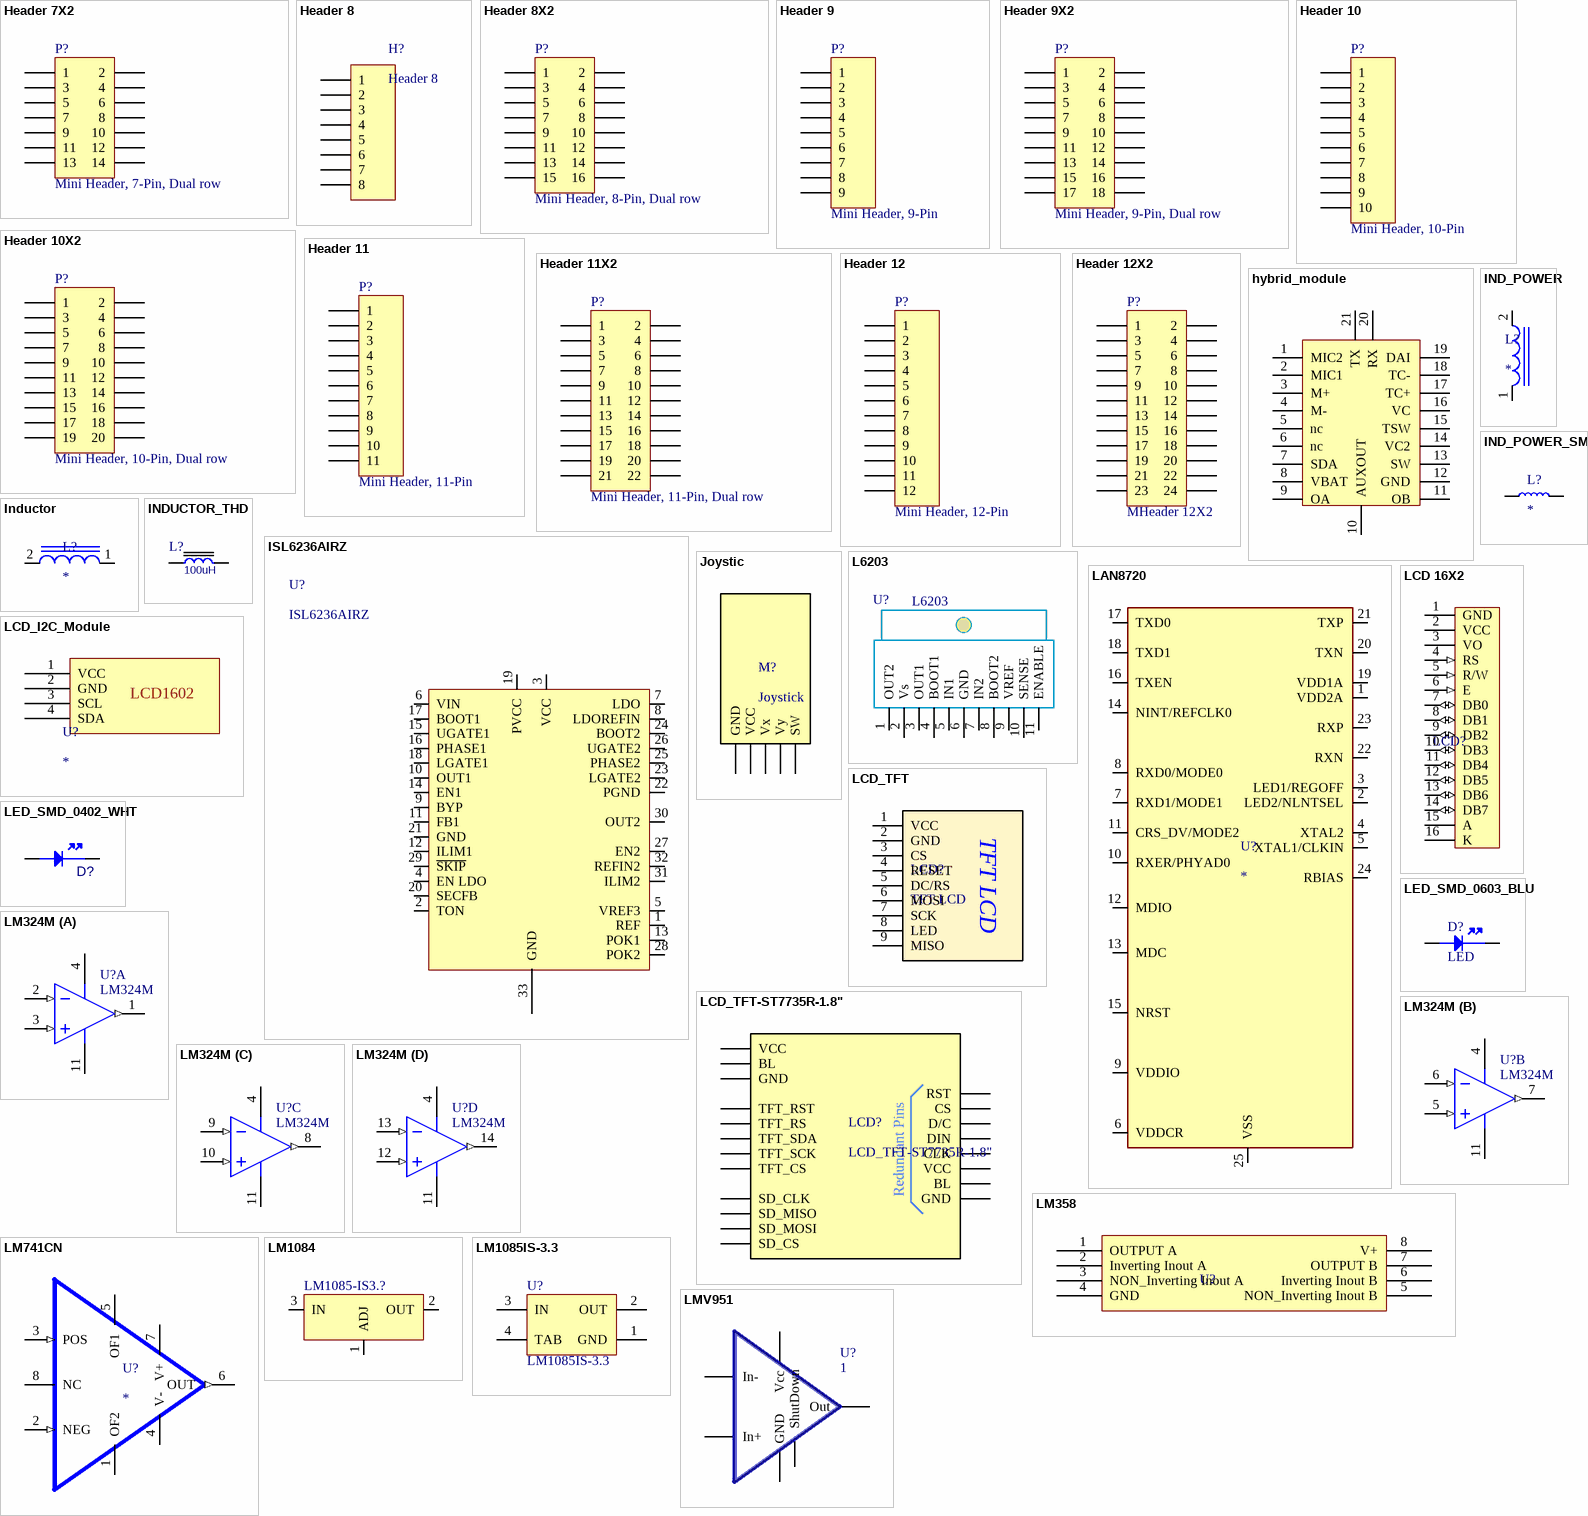
[diagram p2: symbols Header 7X2 to LMV951]

## Header 7X2
designator P?, comment Mini Header, 7-Pin, Dual row
2mm Header, 7-Pin, Dual row; LatestRevisionDate: 23-DEC-2012; LatestRevisionNote: Re-released for DXP Platform.; Publisher: Koosha Electronic Alborz
footprint MMHDR2X7 (Connector; Header; 7x2 Position)
pins: 1, 2, 3, 4, 5, 6, 7, 8, 9, 10, 11, 12, 13, 14

## Header 8
designator H?
footprint MO-Header 8
footprint MY_1X08
pins: 1, 2, 3, 4, 5, 6, 7, 8

## Header 8X2
designator P?, comment Mini Header, 8-Pin, Dual row
2mm Header, 8-Pin, Dual row; LatestRevisionDate: 23-Dec-2012; LatestRevisionNote: Re-released for DXP Platform.; Publisher: koosha eLECTRONIC aLBORZ
footprint MMHDR2X8 (Connector; Header; 8x2 Position)
pins: 1, 2, 3, 4, 5, 6, 7, 8, 9, 10, 11, 12, 13, 14, 15, 16

## Header 9
designator P?, comment Mini Header, 9-Pin
2mm Header, 9-Pin; LatestRevisionDate: 23-DEC-2012; LatestRevisionNote: Re-released for DXP Platform.; Publisher: Koosha Electronic Alborz
footprint MMHDR1X9 (Connector; Header; 9 Position)
pins: 1, 2, 3, 4, 5, 6, 7, 8, 9

## Header 9X2
designator P?, comment Mini Header, 9-Pin, Dual row
2mm Header, 9-Pin, Dual row; LatestRevisionDate: 23-Dec-2012; LatestRevisionNote: Re-released for DXP Platform.; Publisher: koosha Electronic Alborz
footprint MMHDR2X9 (Connector; Header; 9x2 Position)
pins: 1, 2, 3, 4, 5, 6, 7, 8, 9, 10, 11, 12, 13, 14, 15, 16, 17, 18

## Header 10
designator P?, comment Mini Header, 10-Pin
2mm Header, 10-Pin; LatestRevisionDate: 23-Dec-2012; LatestRevisionNote: Re-released for DXP Platform.; Publisher: koosha Electronic Alborz
footprint MMHDR1X10 (Connector; Header; 10 Position)
pins: 1, 2, 3, 4, 5, 6, 7, 8, 9, 10

## Header 10X2
designator P?, comment Mini Header, 10-Pin, Dual row
2mm Header, 10-Pin, Dual row; LatestRevisionDate: 23-dec-2012; LatestRevisionNote: Re-released for DXP Platform.; Publisher: Koosha Electronic Alborz
footprint MMHDR2X10 (Connector; Header; 10x2 Position)
pins: 1, 2, 3, 4, 5, 6, 7, 8, 9, 10, 11, 12, 13, 14, 15, 16, 17, 18, 19, 20

## Header 11
designator P?, comment Mini Header, 11-Pin
2mm Header, 11-Pin; LatestRevisionDate: 23-Dec-2012; LatestRevisionNote: Re-released for DXP Platform.; Publisher: Koosha Electronic Alborz
footprint MMHDR1X11 (Connector; Header; 11 Position)
pins: 1, 2, 3, 4, 5, 6, 7, 8, 9, 10, 11

## Header 11X2
designator P?, comment Mini Header, 11-Pin, Dual row
2mm Header, 11-Pin, Dual row; LatestRevisionDate: 23-dec-2012; LatestRevisionNote: Re-released for DXP Platform.; Publisher: koosha Electronic Alborz
footprint MMHDR2X11 (Connector; Header; 11x2 Position)
pins: 1, 2, 3, 4, 5, 6, 7, 8, 9, 10, 11, 12, 13, 14, 15, 16, 17, 18, 19, 20, 21, 22

## Header 12
designator P?, comment Mini Header, 12-Pin
2mm Header, 12-Pin; LatestRevisionDate: 23-Dec-2012; LatestRevisionNote: Re-released for DXP Platform.; Publisher: Koosha Electronic Alborz
footprint MMHDR1X12 (Connector; Header; 12 Position)
pins: 1, 2, 3, 4, 5, 6, 7, 8, 9, 10, 11, 12

## Header 12X2
designator P?, comment MHeader 12X2
2mm Header, 12-Pin, Dual row; LatestRevisionDate: 23-Dec-2012; LatestRevisionNote: Re-released for DXP Platform.; Publisher: Koosha Electronic Alborz
footprint MMHDR2X12 (Connector; Header; 12x2 Position)
pins: 1, 2, 3, 4, 5, 6, 7, 8, 9, 10, 11, 12, 13, 14, 15, 16, 17, 18, 19, 20, 21, 22, 23, 24

## hybrid_module
designator *?  (value not drawn)
footprint HYBRID_MODULE - on Board
pins: 1 MIC2, 2 MIC1, 3 M+, 4 M-, 5 nc, 6 nc, 7 SDA, 8 VBAT, 9 OA, 10 AUXOUT, 11 OB, 12 GND, 13 SW, 14 VC2, 15 TSW, 16 VC, 17 TC+, 18 TC-, 19 DAI, 20 RX, 21 TX

## IND_POWER
designator L?
33 ÂµH Shielded Drum Core, Wirewound Inductor 3 A 60mOhm Max Nonstandard; MF: Bourns; MP: SRR1260-330M; Value: *; Check_prices: https://www.snapeda.com/parts/SRR1260-330M/Bourns/view-part/?ref=eda; SnapEDA_Link: https://www.snapeda.com/parts/SRR1260-330M/Bourns/view-part/?ref=snap; Availability: Not in stock; Package: Nonstandard Bourns; Price: None
footprint IND_POWER
pins: 1, 2

## IND_POWER_SMD
designator L?
Inductor Power Shielded Drum Core 3.3uH 20% 100KHz Ferrite 9.26A 6.3mOhm DCR T/R; Manufacturer: Eaton Cooper; Manufacturer Part Number: DR125-3R3-R; Supplier 1: Arrow Electronics; RoHS: Yes; Category: Fixed Inductors; Stock 1: 404; Pricing 1: 1=1.1847, 10=1.0035, 25=0.861, 100=0.7171, 250=0.5176 (USD)
footprint INDUCTOR_POWER_SMD
pins: 1, 2

## Inductor
designator L?
footprint Inductor0805
pins: 1, 2

## INDUCTOR_THD
designator L?, comment 100uH
INDUCTOR, THD; VALUE: 100uH
footprint INDUCTOR (INDUCTOR, TORIOD, 25.0X10.0mm)
pins: 1, 2

## ISL6236AIRZ
designator U?
IC REG CTRLR NOTEBK 4OUT 32QFN; Manufacturer: Renesas; Supplier 1: Mouser; Manufacturer Part Number: ISL6236AIRZ; RoHS: Yes; Stock 1: 3133; Pricing 1: 1=6.36, 10=5.75, 50=4.77, 100=4.55, 1000=3.47, 10000=3.47 (USD); ComponentLink1URL: https://datasheet.octopart.com/ISL6236AIRZ-Renesas-datasheet-138160199.pdf?src-supplier=Future+Electronics; ComponentLink1Description: https://datasheet.octopart.com/ISL6236AIRZ-Renesas-datasheet-138160199.pdf?src-supplier=Future+Electronics; ComponentLink2URL: http://www.intersil.com/content/dam/Intersil/documents/isl6/isl6236a.pdf?src-supplier=Digikey; ComponentLink2Description: http://www.intersil.com/content/dam/Intersil/documents/isl6/isl6236a.pdf?src-supplier=Digikey
footprint ISL6236A
pins: 1 REF, 2 TON, 3 VCC, 4 EN LDO, 5 VREF3, 6 VIN, 7 LDO, 8 LDOREFIN, 9 BYP, 10 OUT1, 11 FB1, 12 ILIM1, 13 POK1, 14 EN1, 15 UGATE1, 16 PHASE1, 17 BOOT1, 18 LGATE1, 19 PVCC, 20 SECFB, 21 GND, 22 PGND, 23 LGATE2, 24 BOOT2, 25 PHASE2, 26 UGATE2, 27 EN2, 28 POK2, 29 ~{SKIP}, 30 OUT2, 31 ILIM2, 32 REFIN2, 33 GND

## Joystic
designator M?, comment Joystick
footprint JOYSTICK-MODULE-STAND
pins: 1 GND, 2 VCC, 3 Vx, 4 Vy, 5 SW

## L6203
designator U?
footprint l6203
pins: 1 OUT2, 2 Vs, 3 OUT1, 4 BOOT1, 5 IN1, 6 GND, 7 IN2, 8 BOOT2, 9 VREF, 10 SENSE, 11 ENABLE

## LAN8720
designator U?
2/2 Transceiver Full RMII 24-SQFN (4x4); MF: SMSC; MP: LAN8720A; SnapEDA_Link: https://www.snapeda.com/parts/LAN8720A/SMSC/view-part/?ref=snap; Package: QFN-24 SMSC; Value: *; Check_prices: https://www.snapeda.com/parts/LAN8720A/SMSC/view-part/?ref=eda
footprint LAN8720
pins: 1 VDD2A, 2 LED2/NLNTSEL, 3 LED1/REGOFF, 4 XTAL2, 5 XTAL1/CLKIN, 6 VDDCR, 7 RXD1/MODE1, 8 RXD0/MODE0, 9 VDDIO, 10 RXER/PHYAD0, 11 CRS_DV/MODE2, 12 MDIO, 13 MDC, 14 NINT/REFCLK0, 15 NRST, 16 TXEN, 17 TXD0, 18 TXD1, 19 VDD1A, 20 TXN, 21 TXP, 22 RXN, 23 RXP, 24 RBIAS, 25 VSS

## LCD 16X2
designator LCD?  (value not drawn)
LCD 16X2 Character lcd; ASiD Part Number: LCD 16X2-AS
footprint My_LCD 16x2-A
pins: 1 GND (power), 2 VCC (power), 3 VO, 4 RS (in), 5 R/W (in), 6 E (in), 7 DB0 (io), 8 DB1 (io), 9 DB2 (io), 10 DB3 (io), 11 DB4 (io), 12 DB5 (io), 13 DB6 (io), 14 DB7 (io), 15 A, 16 K

## LCD_I2C_Module
designator U?
Display Development Tools 16x2 Black on Green Char LCD w Backlight; MF: Gravitech; MP: LCD-16X2; Package: None; Price: None; Value: *; SnapEDA_Link: https://www.snapeda.com/parts/LCD-16X2/Gravitech/view-part/?ref=snap; Availability: Not in stock; Check_prices: https://www.snapeda.com/parts/LCD-16X2/Gravitech/view-part/?ref=eda
footprint MODULE_LCD-16X2
pins: 1 VCC, 2 GND, 3 SCL, 4 SDA
text: LCD1602

## LCD_TFT
designator LCD?, comment TFT LCD
footprint LCD_TFT-2.2"-4screws
pins: 1 VCC, 2 GND, 3 CS, 4 RESET, 5 DC/RS, 6 MOSI, 7 SCK, 8 LED, 9 MISO

## LCD_TFT-ST7735R-1.8"
designator LCD?
footprint LCD_TFT-ST7735R-1.8"
pins: 1 GND, 2 VCC, 4 BL, 6 TFT_RST, 7 TFT_RS, 8 TFT_SDA, 9 TFT_SCK, 10 TFT_CS, 11 SD_CLK, 12 SD_MISO, 13 SD_MOSI, 14 SD_CS, 17 GND, 18 BL, 19 VCC, 20 CLK, 21 DIN, 22 D/C, 23 CS, 24 RST
text: Redundant Pins

## LED_SMD_0402_WHT
designator D?
LED, WHITE, 0402, SMD; PARAM: 5mA; MANF: OSRAM; DESC: DESCRIPTION; MANF_P#: LW QH8G-Q2OO-3K5L-1; PARAM2: 2.85V; ASSEMBLY: ASSEMBLY; PRICE: PRICE
footprint LIGHT LED 0402 (LED SMD 0402, WHITE)
pins: 1 anode, 2 cathode

## LED_SMD_0603_BLU
designator D?, comment LED
LED, BLUE, 0603, SMD; Manufacturer 1: Vishay Lite-On; Manufacturer Part Number 1: LTST-C194TBKT; Lens Color: Colorless; Viewing Angle: 130°; Lens Style: Rectangular,Diffused,Colorless; Forward Current: 5mA; Forward Voltage: 3.8V; Luminous Intensity: 180mcd; Dominant Wavelength: 468nm; Test Current: 20mA; Lens Transparency: Clear; Number of Elements: 1; Power Dissipation: 76mW; Reverse Voltage: 5V; Supplier 1: Digi-Key; RoHS: Yes; Category: LEDs; Stock 1: 93526; Pricing 1: 1=0.45000, 10=0.32000, 100=0.14240, 500=0.09968, 1000=0.08188, 2500=0.07120 (USD); Mount: Surface Mount; Case/Package: 0603; Number of Pins: 2; Color: Blue; Case Code (Metric): 1608; Case Code (Imperial): 0603; Min Operating Temperature: -20°C; Max Operating Temperature: 80°C; Package Quantity: 1; Packaging: Tape and Reel; Illumination Color: Blue; Number of LEDs: 1; Length: 1.6mm; Height: 0.35mm; Width: 0.8mm; Depth: 0.8mm; Radiation Hardening: No; Lead Free: Lead Free; ComponentLink1URL: https://datasheet.ciiva.com/2115/ltst-c194tbkt-2115056.pdf?src-supplier=Digi-Key; ComponentLink1Description: https://datasheet.ciiva.com/2115/ltst-c194tbkt-2115056.pdf?src-supplier=Digi-Key; ComponentLink2URL: https://datasheet.ciiva.com/4689/lite-on-ltst-c194tbkt-187209-4689177.pdf?src-supplier=Mouser; ComponentLink2Description: https://datasheet.ciiva.com/4689/lite-on-ltst-c194tbkt-187209-4689177.pdf?src-supplier=Mouser; ComponentLink3URL: https://datasheet.ciiva.com/2115/s-110-ltst-c194tbkt-2115057.pdf?src-supplier=Digi-Key; ComponentLink3Description: https://datasheet.ciiva.com/2115/s-110-ltst-c194tbkt-2115057.pdf?src-supplier=Digi-Key; Supplier Part Number 1: 160-1837-1-ND
footprint LIGHT LED 0603
footprint My_LED3MM
footprint MY_LED5MM
footprint MY_LED_0805
footprint MY_LED_1206
pins: 1 anode, 2 cathode

## LM324M
designator U?
Low Power Quad Operational Amplifier, 14-pin Narrow SOIC; Manufacturer: National Semiconductor; PackageTopMarking: NSUZXYTTE#*LM324M; PowerWise: N; CompType: Amplifiers; High-Reliability: Y; DatasheetVersion: Aug-2000; PackageVersion: revJ, Jan-1996; PackageReference: M14A; PackageDescription: Molded Package S.O., .150in Wide, 14 Lead; PartNumber: LM324M; RoHS: N; PinCount: 14; Code_JEDEC: MS-012AB; Code_IPC: SOIC127P600-14; ComponentLink1Description: Manufacturer URL; ComponentLink1URL: http://www.national.com/; ComponentLink2Description: LM324 Datasheet; ComponentLink2URL: http://www.national.com/ds/LM/LM324.pdf; ComponentLink3Description: LM324 Web Page; ComponentLink3URL: http://www.national.com/pf/LM/LM324.html; ComponentLink4Description: M14A Package Page; ComponentLink4URL: http://www.national.com/packaging/folders/m14a.html
footprint M14A_N
pins on every part: 4 V+ (power), 11 GND (power)
part A pins: 1 OUT1 (out), 2 IN1- (in), 3 IN1+ (in)
part B pins: 5 IN2+ (in), 6 IN2- (in), 7 OUT2 (out)
part C pins: 8 OUT3 (out), 9 IN3- (in), 10 IN3+ (in)
part D pins: 12 IN4+ (in), 13 IN4- (in), 14 OUT4 (out)

## LM358
designator U?  (value not drawn)
footprint LM358
pins: 1 OUTPUT A, 2 Inverting Inout A, 3 NON_Inverting Inout A, 4 GND, 5 NON_Inverting Inout B, 6 Inverting Inout B, 7 OUTPUT B, 8 V+

## LM741CN
designator U?
General Purpose Amplifier 1 Circuit - 8-DIP; MP: LM741CN; MF: ON Semiconductor; Availability: In Stock; Package: DIP-8 ON Semiconductor; Value: *; Check_prices: https://www.snapeda.com/parts/LM741CN/Onsemi/view-part/?ref=eda; SnapEDA_Link: https://www.snapeda.com/parts/LM741CN/Onsemi/view-part/?ref=snap; Price: None
footprint DIP254P762X508-8
pins: 1 OF2, 2 NEG (in), 3 POS (in), 4 V- (power), 5 OF1, 6 OUT (out), 7 V+ (power), 8 NC

## LM1084
designator LM1085-IS3.?, comment ADJ/5v/3.3v  (value not drawn)
footprint TO-220AB (TO, Thru-Hole, Vertical, Heatsink Mounted; 3 In-Line Leads; Pitch 2.54 mm)
pins: 1 ADJ, 2 OUT, 3 IN

## LM1085IS-3.3
designator U?
3A Low Dropout Positive Regulators, 3-pin TO-263; Manufacturer: National Semiconductor; PackageTopMarking: NSUZXYTTE#*LM1085*IS-3.3; PowerWise: N; CompType: LDO IC; Published: 4-Dec-2008; DatasheetVersion: Jun-2005; PackageVersion: revF, Apr-2005; PackageReference: TS3B; Publisher: Altium Limited; PackageDescription: TO-263, Molded, .400 x .390 x .180in, 3 Lead, .1in Pitch, Surface Mount; Supplier 1: Farnell; Supplier Part Number 1: 4975479; PartNumber: LM1085IS-3.3; RoHS: N; PinCount: 3; Code_JEDEC: MO-169-AA; ComponentLink1Description: LM1085 Datasheet; ComponentLink1URL: http://www.national.com/ds/LM/LM1085.pdf; ComponentLink2Description: LM1085 Web Page; ComponentLink2URL: http://www.national.com/pf/LM/LM1085.html; ComponentLink3Description: TS3B Package Page; ComponentLink3URL: http://www.national.com/packaging/folders/ts3b.html
footprint TS3B_M (D2-PAK, 4-Leads, Body 8.6x10.2mm, Pitch 2.54mm, Lead Span 14.2mm, IPC Low Density)
pins: 1 GND (power), 2 OUT (power), 3 IN (power), 4 TAB (power)

## LMV951
designator U?, comment 1
SingleSupplyOPAMP
footprint LMV951_OPAMP
pins: 1 Out, 2 GND, 3 In+, 4 In-, 5 ShutDown, 6 Vcc

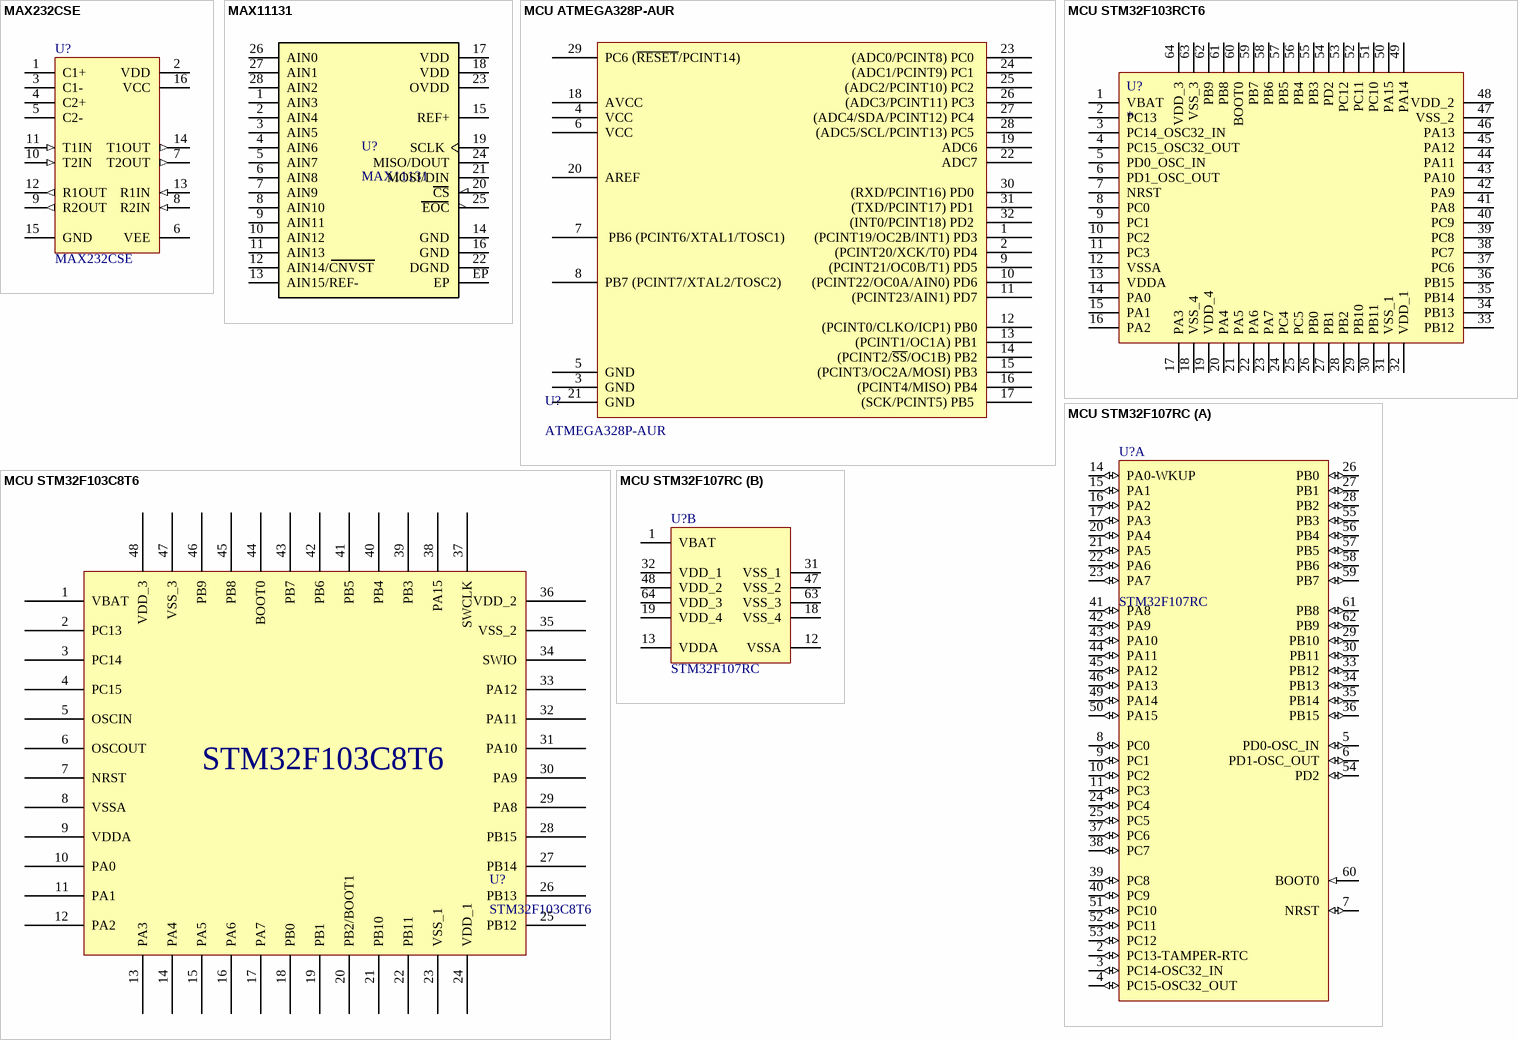
[diagram p3: symbols MAX232CSE to MCU STM32F107RC]

## MAX232CSE
designator U?
+5V Powered, Multi-Channel RS-232 Driver/Receiver; Published: 16-Jan-2001; LatestRevisionDate: 13-Apr-2006; LatestRevisionNote: IPC-7351 Footprint Added.; PackageReference: NSO16; Publisher: Altium Limited; PackageDescription: 16-Pin Small Outline Integrated Circuit 1.27 mm Pitch; Code_JEDEC: MS-012-AC; Code_IPC: SOIC127P600-16; ComponentLink1Description: Manufacturer Link; ComponentLink1URL: http://www.maxim-ic.com/; ComponentLink2Description: Datasheet; ComponentLink2URL: http://pdfserv.maxim-ic.com/en/ds/MAX220-MAX249.pdf
footprint NSO16_N (SOIC, 16-Leads, Body 9.9x3.9mm, Pitch 1.27mm, IPC Medium Density)
footprint NSO16_L (SOIC, 16-Leads, Body 9.9x3.9mm, Pitch 1.27mm, IPC High Density)
footprint NSO16_M (SOIC, 16-Leads, Body 9.9x3.9mm, Pitch 1.27mm, IPC Low Density)
pins: 1 C1+, 2 VDD (power), 3 C1-, 4 C2+, 5 C2-, 6 VEE (power), 7 T2OUT (out), 8 R2IN (in), 9 R2OUT (out), 10 T2IN (in), 11 T1IN (in), 12 R1OUT (out), 13 R1IN (in), 14 T1OUT (out), 15 GND (power), 16 VCC (power)

## MAX11131
designator U?
Analog to Digital Converters - ADC Pin-/Software-Compatible Family of 10-/12-Bit, 8-/16-Channel, 3Msps ADCs with External Reference
footprint TQFN-28
pins: 1 AIN3, 2 AIN4, 3 AIN5, 4 AIN6, 5 AIN7, 6 AIN8, 7 AIN9, 8 AIN10, 9 AIN11, 10 AIN12, 11 AIN13, 12 AIN14/CNVST, 13 AIN15/REF-, 14 GND, 15 REF+, 16 GND, 17 VDD, 18 VDD, 19 SCLK, 20 CS, 21 MOSI/DIN, 22 DGND, 23 OVDD, 24 MISO/DOUT, 25 EOC, 26 AIN0, 27 AIN1, 28 AIN2, EP

## MCU ATMEGA328P-AUR
designator U?, comment ATMEGA328P-AUR
MCU 8-bit ATmega AVR RISC 32KB Flash 2.5V/3.3V/5V 32-Pin TQFP T/R; Manufacturer 1: Microchip / Atmel; Frequency: 20MHz; Interface: I2C,SPI,UART,USART,2-Wire; Number of I/Os: 23; Oscillator Type: Internal; Peripherals: Brown-out Detect/Reset,POR,PWM,WDT; Min Supply Voltage: 1.8V; Max Supply Voltage: 5.5V; RAM Size: 2KB; Number of Timers/Counters: 3; Data Bus Width: 8b; Watchdog Timer: Yes; Supplier 1: Digi-Key; RoHS: Yes; Category: Microcontrollers; Stock 1: 12551; Pricing 1: 1=2.08000, 25=1.91000, 100=1.73000 (USD); Mount: Surface Mount; Case/Package: A; Number of Pins: 32; Contact Plating: Tin,Matte; Min Operating Temperature: -40°C; Max Operating Temperature: 85°C; Packaging: Tape and Reel; Memory Type: FLASH; Memory Size: 32KB; Core Architecture: AVR; Package Quantity: 2000; Number of Programmable I/O: 23; Max Frequency: 20MHz; REACH SVHC: No SVHC; Lead Free: Lead Free; ComponentLink1URL: https://datasheet.ciiva.com/6641/atmega48a-pa-88a-pa-168a-pa-328-p-ds-ds40002061a-6641009.pdf?src-supplier=Digi-Key; ComponentLink1Description: https://datasheet.ciiva.com/6641/atmega48a-pa-88a-pa-168a-pa-328-p-ds-ds40002061a-6641009.pdf?src-supplier=Digi-Key; Supplier Part Number 1: ATMEGA328P-AURCT-ND; Manufacturer Part Number 1: ATMEGA328P-AUR
footprint TQFP-32
pins: 1 (PCINT19/OC2B/INT1) PD3, 2 (PCINT20/XCK/T0) PD4, 3 GND, 4 VCC, 5 GND, 6 VCC, 7  PB6 (PCINT6/XTAL1/TOSC1), 8 PB7 (PCINT7/XTAL2/TOSC2) , 9 (PCINT21/OC0B/T1) PD5, 10 (PCINT22/OC0A/AIN0) PD6, 11 (PCINT23/AIN1) PD7, 12 (PCINT0/CLKO/ICP1) PB0, 13 (PCINT1/OC1A) PB1, 14 (PCINT2/~{SS}/OC1B) PB2, 15 (PCINT3/OC2A/MOSI) PB3, 16 (PCINT4/MISO) PB4, 17 (SCK/PCINT5) PB5 , 18 AVCC, 19 ADC6, 20 AREF, 21 GND, 22 ADC7, 23 (ADC0/PCINT8) PC0 , 24 (ADC1/PCINT9) PC1 , 25 (ADC2/PCINT10) PC2 , 26 (ADC3/PCINT11) PC3 , 27 (ADC4/SDA/PCINT12) PC4 , 28 (ADC5/SCL/PCINT13) PC5 , 29 PC6 (~{RESET}/PCINT14), 30 (RXD/PCINT16) PD0 , 31 (TXD/PCINT17) PD1 , 32 (INT0/PCINT18) PD2 

## MCU STM32F103C8T6
designator U?, comment STM32F103C8T6
STM32F103
footprint STM32F103C8T6
pins: 1 VBAT, 2 PC13, 3 PC14, 4 PC15, 5 OSCIN, 6 OSCOUT, 7 NRST, 8 VSSA, 9 VDDA, 10 PA0, 11 PA1, 12 PA2, 13 PA3, 14 PA4, 15 PA5, 16 PA6, 17 PA7, 18 PB0, 19 PB1, 20 PB2/BOOT1, 21 PB10, 22 PB11, 23 VSS_1, 24 VDD_1, 25 PB12, 26 PB13, 27 PB14, 28 PB15, 29 PA8, 30 PA9, 31 PA10, 32 PA11, 33 PA12, 34 SWIO, 35 VSS_2, 36 VDD_2, 37 SWCLK, 38 PA15, 39 PB3, 40 PB4, 41 PB5, 42 PB6, 43 PB7, 44 BOOT0, 45 PB8, 46 PB9, 47 VSS_3, 48 VDD_3

## MCU STM32F103RCT6
designator U?
footprint STM32F103RCT6
pins: 1 VBAT, 2 PC13, 3 PC14_OSC32_IN, 4 PC15_OSC32_OUT, 5 PD0_OSC_IN, 6 PD1_OSC_OUT, 7 NRST, 8 PC0, 9 PC1, 10 PC2, 11 PC3, 12 VSSA, 13 VDDA, 14 PA0, 15 PA1, 16 PA2, 17 PA3, 18 VSS_4, 19 VDD_4, 20 PA4, 21 PA5, 22 PA6, 23 PA7, 24 PC4, 25 PC5, 26 PB0, 27 PB1, 28 PB2, 29 PB10, 30 PB11, 31 VSS_1, 32 VDD_1, 33 PB12, 34 PB13, 35 PB14, 36 PB15, 37 PC6, 38 PC7, 39 PC8, 40 PC9, 41 PA8, 42 PA9, 43 PA10, 44 PA11, 45 PA12, 46 PA13, 47 VSS_2, 48 VDD_2, 49 PA14, 50 PA15, 51 PC10, 52 PC11, 53 PC12, 54 PD2, 55 PB3, 56 PB4, 57 PB5, 58 PB6, 59 PB7, 60 BOOT0, 61 PB8, 62 PB9, 63 VSS_3, 64 VDD_3

## MCU STM32F107RC
designator U?, comment STM32F107RC
footprint LQFP64_M (Thin QFP, 64-Leads, Body 10x10mm, Pitch 0.5mm, IPC Low Density)
part A pins: 2 PC13-TAMPER-RTC (io), 3 PC14-OSC32_IN (io), 4 PC15-OSC32_OUT (io), 5 PD0-OSC_IN (io), 6 PD1-OSC_OUT (io), 7 NRST (io), 8 PC0 (io), 9 PC1 (io), 10 PC2 (io), 11 PC3 (io), 14 PA0-WKUP (io), 15 PA1 (io), 16 PA2 (io), 17 PA3 (io), 20 PA4 (io), 21 PA5 (io), 22 PA6 (io), 23 PA7 (io), 24 PC4 (io), 25 PC5 (io), 26 PB0 (io), 27 PB1 (io), 28 PB2 (io), 29 PB10 (io), 30 PB11 (io), 33 PB12 (io), 34 PB13 (io), 35 PB14 (io), 36 PB15 (io), 37 PC6 (io), 38 PC7 (io), 39 PC8 (io), 40 PC9 (io), 41 PA8 (io), 42 PA9 (io), 43 PA10 (io), 44 PA11 (io), 45 PA12 (io), 46 PA13 (io), 49 PA14 (io), 50 PA15 (io), 51 PC10 (io), 52 PC11 (io), 53 PC12 (io), 54 PD2 (io), 55 PB3 (io), 56 PB4 (io), 57 PB5 (io), 58 PB6 (io), 59 PB7 (io), 60 BOOT0 (in), 61 PB8 (io), 62 PB9 (io)
part B pins: 1 VBAT (power), 12 VSSA (power), 13 VDDA (power), 18 VSS_4 (power), 19 VDD_4 (power), 31 VSS_1 (power), 32 VDD_1 (power), 47 VSS_2 (power), 48 VDD_2 (power), 63 VSS_3 (power), 64 VDD_3 (power)

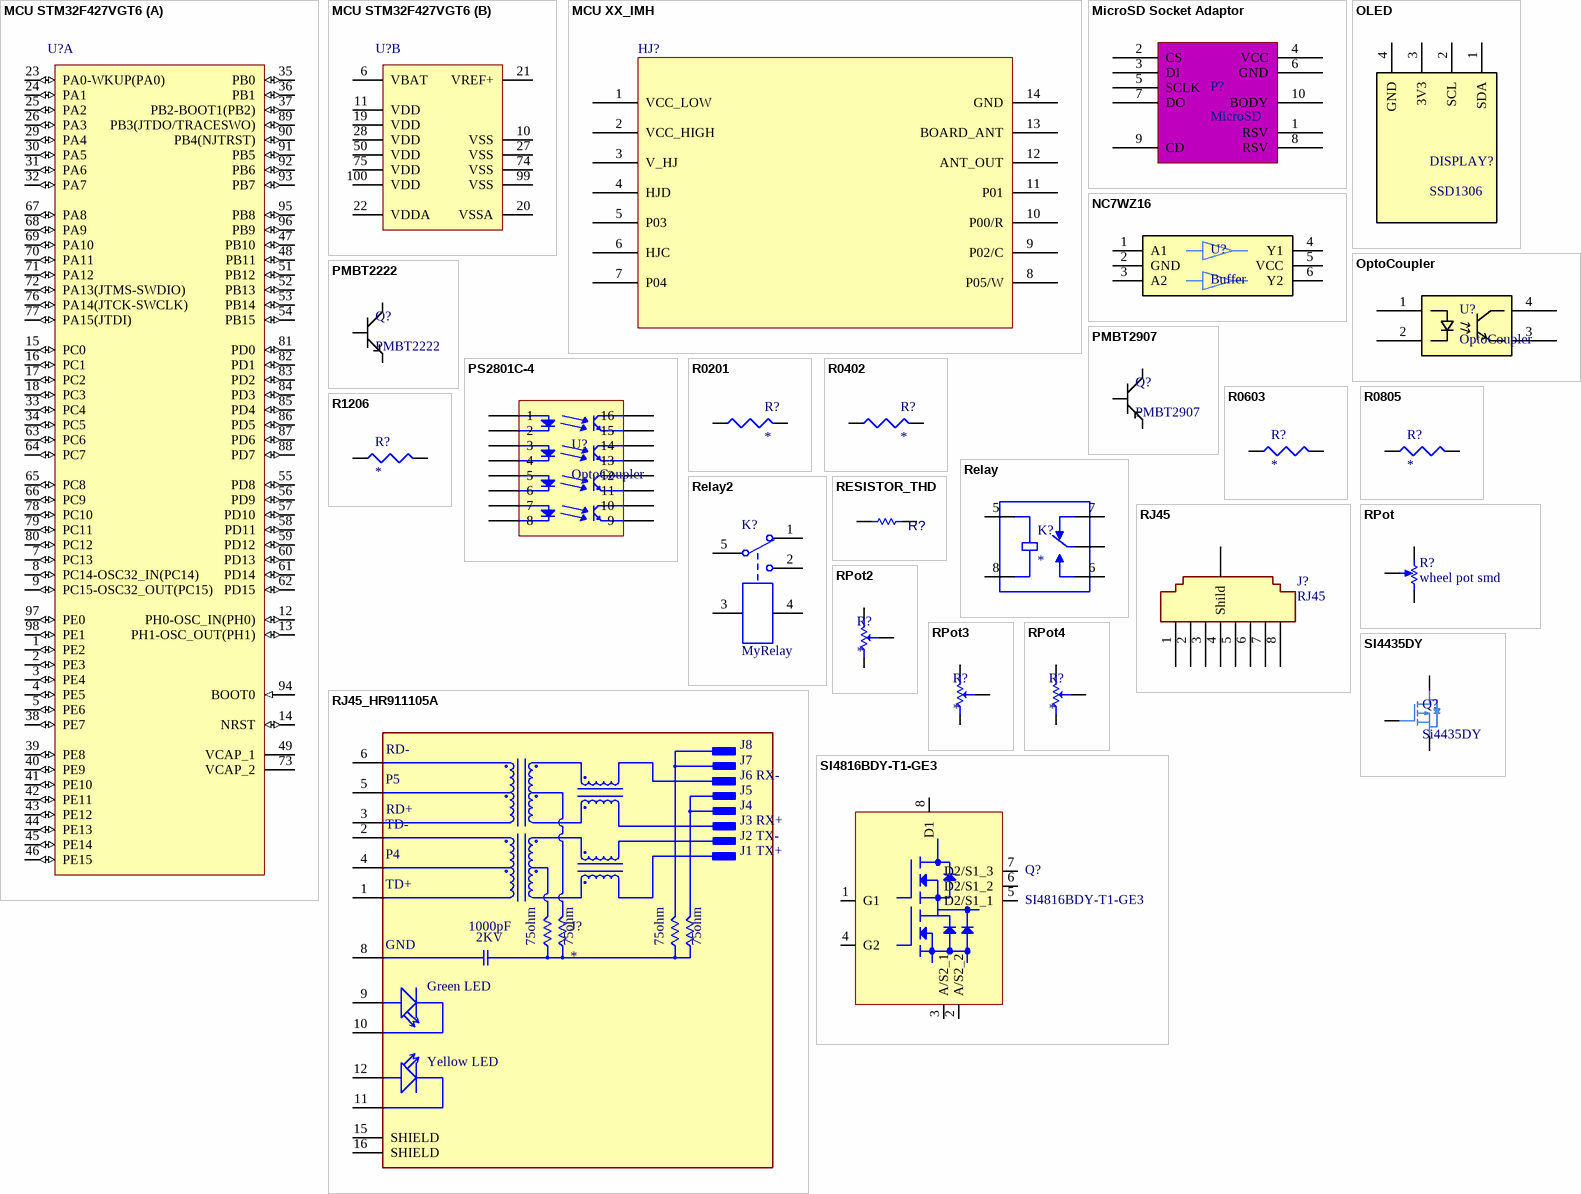
[diagram p4: symbols MCU STM32F427VGT6 to SI4816BDY-T1-GE3]